# Altium schematic symbol library 基本元件.SchLib: 6 symbols
Pins are listed as number, name and electrical type; pins without a type are passive.

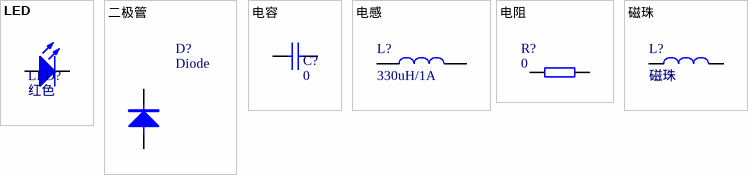
[diagram p0: symbols LED to 磁珠]

## LED
designator LED?, comment 红色
名称: 贴片发光二极管; 封装: 0805; 单位: 个
footprint LED 0805R
footprint LED 0805G (绿色0805LED)
footprint LED 0805B
pins: 1 A, 2 K

## 二极管
designator D?, comment Diode
名称: 二极管; 封装: 直插; 单位: 个
footprint Diode-4007-SMT
footprint Diode-1N4148-SMT (SMT 1N4148)
footprint Diode-RS54-SMT
pins: 1 A, 2 K
2 alternate drawings of the same symbol

## 电容
designator C?, comment 0
名称: 贴片电容; 封装: 0805; 单位: 个
footprint C0805
footprint C1206
footprint C0603
pins: 1, 2
2 alternate drawings of the same symbol

## 电感
designator L?, comment 330uH/1A
名称: 电感; 封装: 直插; 单位: 个
footprint 电感 贴片 5*5
footprint 电感 贴片 5.5*5.5
footprint 电感 贴片 6*6
footprint 电感 贴片 7*7
footprint 电感 贴片 7.5*7.5
footprint 电感 贴片 12*12
footprint 电感 贴片 0805
pins: 1, 2

## 电阻
designator R?, comment 0
名称: 贴片电阻; 封装: 0805; 单位: 个
footprint R0805
footprint R0603
footprint R1206
footprint AXIAL-0.5 (取样电阻)
pins: 1, 2

## 磁珠
designator L?
封装: 0805; 单位: 个; 名称: 磁珠
footprint 磁珠 0805
pins: 1, 2